# Altium footprint library MKP1F044706J00JSSD.PcbLib: 1 footprints
Each footprint in its own frame and in the unit in brackets; x right, y up, seen from the top. Pads: shape width x height; smd on the part's side, far side on the other; paste and mask are expansions set on the pad; w line width, h text height; cw(c..) or ccw(c..) is an arc to the next point about the centre after c.
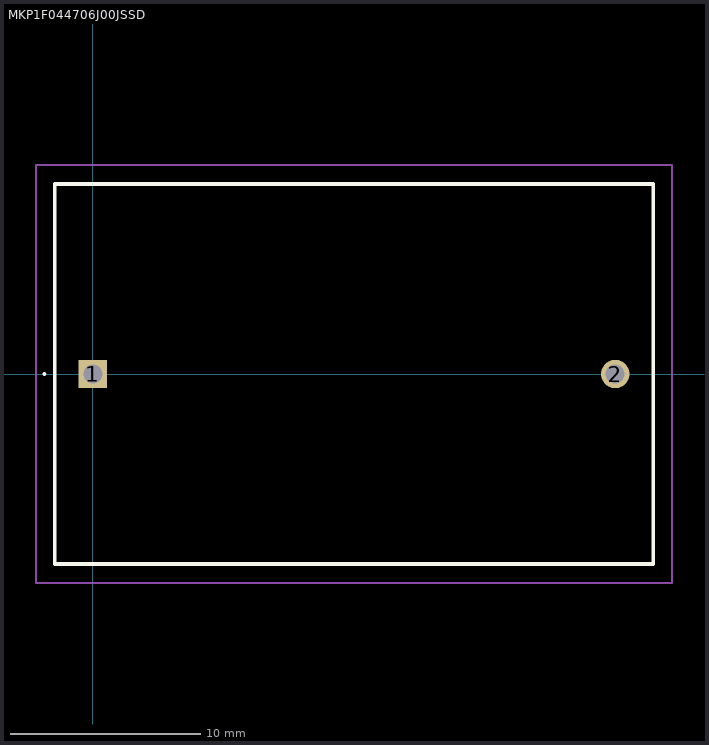
[diagram p0: the footprint, top view; thin cyan lines are the x and y axes]

## MKP1F044706J00JSSD [mm]
pads (2):
  rect 1.5x1.5 hole 1: 1(0,0)
  round 1.5 hole 1: 2(27.5,0)
Top Overlay:
  lines w0.1: -2.6,0 -2.6,0 ; -2.6,0 ccw(c-2.55,0) -2.5,0 ; -2.6,0 cw(c-2.55,0) -2.5,0 ; -2.5,0 -2.5,0
  lines w0.2: -2,-10 29.5,-10 29.5,10 -2,10 -2,-10
Mechanical 15:
  lines w0.1: -2,-10 29.5,-10 29.5,10 -2,10 -2,-10
Mechanical 20:
  lines w0.1: -3,-11 30.5,-11 30.5,11 -3,11 -3,-11